# EAGLE library part MA08-1 (library GadgetFactory_v1)
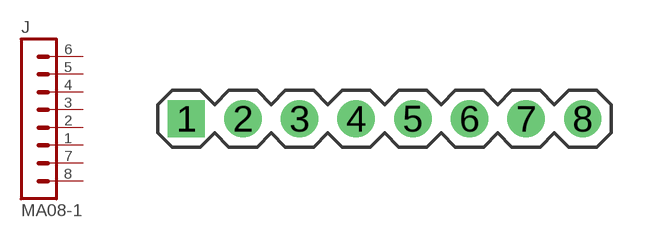
[diagram p36: symbol with the pads of MA08-1; footprint MA08-1]

Designator prefix J

## MA08-1  [MA08-1]
1  1  pas
2  2  pas
3  3  pas
4  4  pas
5  5  pas
6  6  pas
7  7  pas
8  8  pas

## Footprint MA08-1 (pad centres in mm)
drill 1 pad 1.676 square: 1 -8.89,0
drill 1 pad 1.676: 2 -6.35,0; 3 -3.81,0; 4 -1.27,0; 5 1.27,0; 6 3.81,0; 7 6.35,0; 8 8.89,0